# Altium footprint library M0_Socket.PcbLib: 5 footprints
Each footprint in its own frame and in the unit in brackets; x right, y up, seen from the top. Pads: shape width x height; smd on the part's side, far side on the other; paste and mask are expansions set on the pad; w line width, h text height; cw(c..) or ccw(c..) is an arc to the next point about the centre after c.
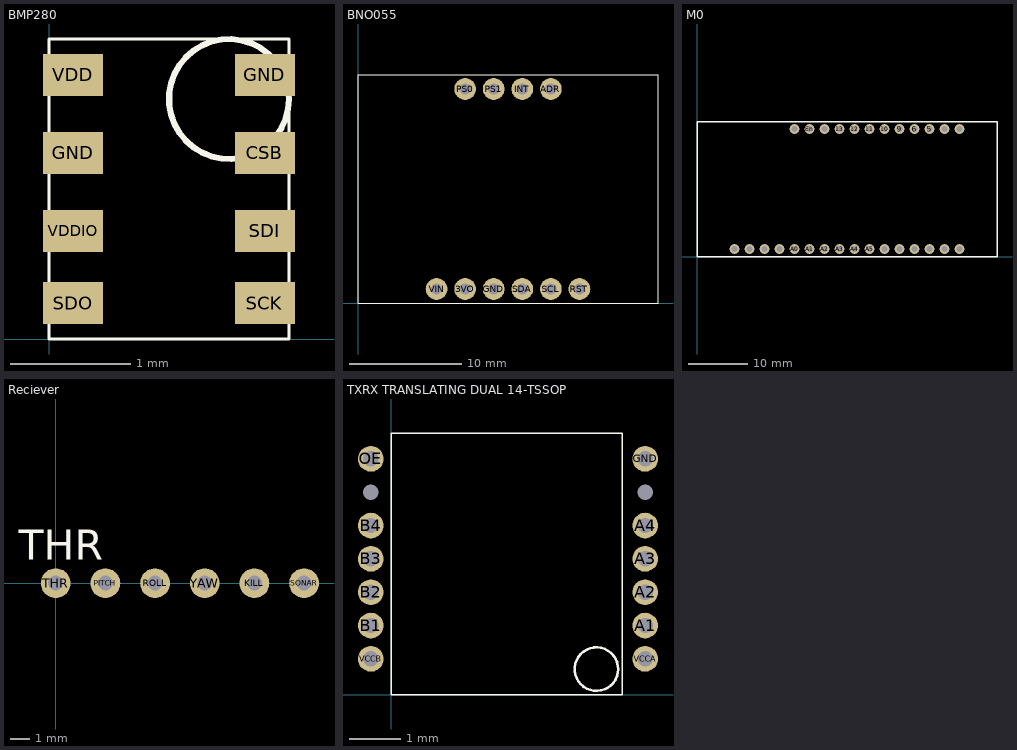
[diagram p0: the footprints below, top view; thin cyan lines are the x and y axes]

## BMP280 [mm]
pads (8):
  rect 0.5x0.35 smd: CSB(1.8,1.55) GND(0.2,1.55) GND(1.8,2.2) SCK(1.8,0.3) SDI(1.8,0.9) SDO(0.2,0.3) VDD(0.2,2.2) VDDIO(0.2,0.9)
Top Overlay:
  circle w0.051: c1.5,2 r0.5
  lines w0.025: 0,0 0,2.5 2,2.5 2,0 0,0

## BNO055 [mil]
pads (10):
  round 76 hole 39.37: 3VO(375,50) ADR(675,750) GND(475,50) INT(575,750) PS0(375,750) PS1(475,750) RST(775,50) SCL(675,50) SDA(575,50) VIN(275,50)
Top Overlay:
  lines w1: 0,0 0,800 1050,800 1050,0 0,0

## M0 [mil]
pads (28):
  round 65 hole 39.37: 3.3V(350,50) 5(1550,850) 6(1450,850) 9(1350,850) 10(1250,850) 11(1150,850) 12(1050,850) 13(950,850) A0(650,50) A1(750,50) A2(850,50) A3(950,50) A4(1050,50) A5(1150,50) ARf(450,50) BAT(650,850) En(750,850) GND(550,50) io1(1750,50) MIS(1450,50) MOS(1350,50) RST(250,50) RX0(1550,50) SCK(1250,50) SCL(1650,850) SDA(1750,850) TX1(1650,50) USB(850,850)
Top Overlay:
  lines w10: 0,0 2000,0 2000,900 0,900 0,0

## Reciever [mil]
pads (6):
  round 60 hole 30: KILL(400,0) PITCH(100,0) ROLL(200,0) SONAR(500,0) THR(0,0) YAW(300,0)
Top Overlay:
  text "THR" at -73.82,47.24 h60

## TXRX TRANSLATING DUAL 14-TSSOP [mm]
pads (14):
  round 0.5 hole 0.3: A1(4.95,1.35) A2(4.95,2) A3(4.95,2.65) A4(4.95,3.3) B1(-0.4,1.35) B2(-0.4,2) B3(-0.4,2.65) B4(-0.4,3.3) GND(4.95,4.6) OE(-0.4,4.6) VCCA(4.95,0.7) VCCB(-0.4,0.7)
  round 0 hole 0.3: ""(-0.4,3.95) ""(4.95,3.95)
Top Overlay:
  circle w0.051: c4,0.5 r0.424
  lines w0.025: 0,0 0,5.1 4.5,5.1 4.5,0 0,0